# Altium footprint library Misc.PcbLib: 150 footprints (part 9 of 10)
Each footprint in its own frame and in the unit in brackets; x right, y up, seen from the top. Pads: shape width x height; smd on the part's side, far side on the other; paste and mask are expansions set on the pad; w line width, h text height; cw(c..) or ccw(c..) is an arc to the next point about the centre after c.
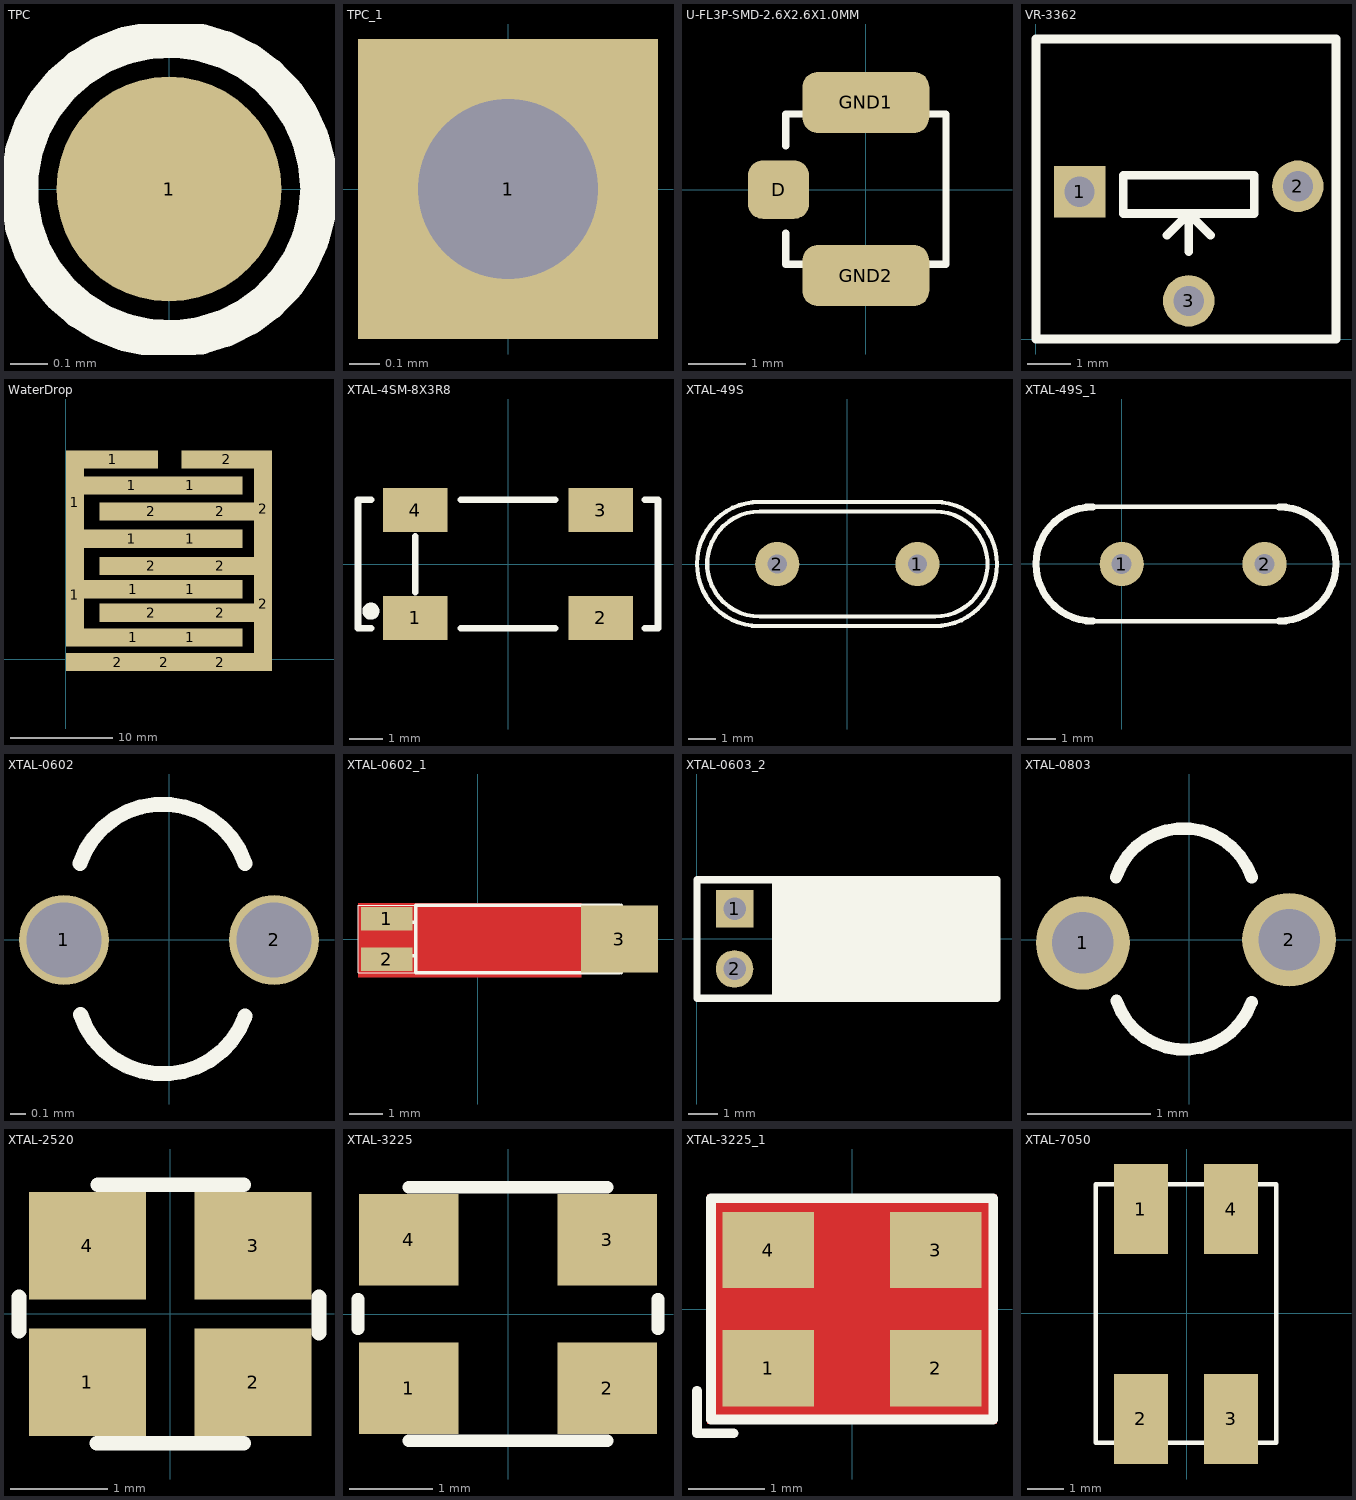
[diagram p8: the footprints below, top view; thin cyan lines are the x and y axes]

## TPC [mm]
pads (1):
  round 0.6 smd: 1(0,0)
Top Overlay:
  circle w0.1: c0,0 r0.4

## TPC_1 [mm] "2.00MM Hole"
pads (1):
  rect 1x1 hole 0.6: 1(0,0)

## U-FL3P-SMD-2.6X2.6X1.0MM [mil] "U-FL3P-SMD-2.6X2.6X1.0MM"
pads (3):
  rrect50% 42x40 smd: D(-60,0)
  rrect50% 87x42 smd: GND1(0,60) GND2(0,-59.06)
Top Overlay:
  lines w5: -55,-30 -55,-51.18 -35.43,-51.18 ; -55,30 -55,52 -35.43,52 ; -35.43,-51.18 -35.43,-59.06 36,-59.06 36,-51.18 ; -35.43,-51.18 36,-51.18 ; -35.43,52 -35.43,60 36,60 36,52 ; -35.43,52 36,52 ; 36,-51.18 55,-51.18 55,52 36,52
Mechanical 2:
Mechanical 4:
Mechanical 23:
  text ">name" at 5,-20 h15.5

## VR-3362 [mm] "Thru-Hole; 3 Leads"
height 3.9
pads (3):
  rect 1.2x1.2 hole 0.7: 1(1.016,3.429)
  round 1.2 hole 0.7: 2(6.096,3.556) 3(3.556,0.889)
Top Overlay:
  lines w0.2: 0,0 0,6.985 6.985,6.985 6.985,0 0,0
  lines w0.203: 3.048,2.413 3.556,2.921 3.556,2.032 ; 3.683,2.794 4.064,2.413 ; 2.032,2.921 2.032,3.81 5.08,3.81 5.08,2.921 2.032,2.921

## WaterDrop [mil]
pads (23):
  rect 70x400 smd: 1(35,250) 1(35,605) 2(760,215) 2(760,580)
  rect 350x70 smd: 1(180,770) 2(620,770)
  rect 400x70 smd: 1(255,465) 1(255,670) 1(260,85) 1(260,270) 1(480,85) 1(480,270) 1(480,465) 1(480,670) 2(200,-10) 2(330,180) 2(330,360) 2(330,570) 2(380,-10) 2(595,-10) 2(595,180) 2(595,360) 2(595,570)

## XTAL-4SM-8X3R8 [mm]
height 2
pads (4):
  rect 1.9x1.3 smd: 1(-2.75,-1.6) 2(2.75,-1.6) 3(2.75,1.6) 4(-2.75,1.6)
Top Overlay:
  circle w0.254: c-4.064,-1.397 r0.127
  lines w0.203: -4.064,-1.905 -4.445,-1.905 -4.445,1.905 -4.064,1.905 ; -2.75,-0.838 -2.75,0.813 ; -1.397,-1.905 1.397,-1.905 ; -1.397,1.905 1.397,1.905 ; 4.064,-1.905 4.445,-1.905 4.445,-1.651 4.445,1.651 4.445,1.905 4.064,1.905

## XTAL-49S [mm] "Hole 1.6mm"
pads (2):
  round 1.6 hole 0.7: 1(2.54,0) 2(-2.54,0)
Top Overlay:
  lines w0.152: -3.2,-2.25 cw(c-3.2,0) -3.177,2.25 3.175,2.25 cw(c3.175,0) 3.151,-2.25 -3.2,-2.25 ; -3.175,-1.905 cw(c-3.175,0) -3.175,1.905 3.175,1.905 cw(c3.175,0) 3.175,-1.905 -3.175,-1.905

## XTAL-49S_1 [mil]
height 78.74
pads (2):
  round 62 hole 28: 1(-0.36,-0.2) 2(199.64,-0.2)
Top Overlay:
  lines w6.3: -40.36,-80.2 219.64,-80.2 ; -40.36,79.8 219.64,79.8
  lines w10: -40.36,-80.2 cw(c-40.36,-0.2) -40.36,79.8 ; 219.64,-80.2 ccw(c219.64,-0.2) 219.64,79.8

## XTAL-0602 [mm]
height 5.08
pads (2):
  round 0.6 hole 0.5: 1(-0.7,0) 2(0.7,0)
Top Overlay:
  lines w0.1: -0.595,0.508 cw(c-0.043,0.324) 0.508,0.508 ; -0.59,-0.496 ccw(c-0.039,-0.312) 0.508,-0.508

## XTAL-0602_1 [mm] "6R90X1R40X1R30"
pads (3):
  rect 1.524x0.7 smd: 1(-2.7,0.6) 2(-2.7,-0.6)
  rect 2.286x2 smd: 3(4.2,0)
Top Layer:
  pour cut-out: -3.558,1.054 3.059,1.054 3.059,-1.132 -3.558,-1.132
Top Overlay:
  lines w0.025: -3.55,-1 -3.55,1 4.3,1 4.3,-1 -3.55,-1
  lines w0.1: -2.45,-0.5 -1.85,-0.5 ; -2.45,0.5 -1.85,0.5 ; 4.2,-1 -1.85,-1 -1.85,1 4.2,1 ; 4.25,-1 4.25,1

## XTAL-0603_2 [mil]
pads (2):
  rect 50x50 hole 30: 1(50,40)
  round 50 hole 30: 2(50,-40)
Top Overlay:
  lines w10: 105,-78.74 105,78.74 ; 115,-78.74 115,78.74 ; 123.7,-78.74 123.7,78.74 ; 130,-78.74 130,78.74 ; 140,-78.74 140,78.74 ; 148.7,-78.74 148.7,78.74 ; 155,-78.74 155,78.74 ; 165,-78.74 165,78.74 ; 173.7,-78.74 173.7,78.74 ; 180,-78.74 180,78.74 ; 190,-78.74 190,78.74 ; 198.7,-78.74 198.7,78.74 ; 200,-78.74 200,78.74 ; 210,-78.74 210,78.74 ; 218.7,-78.74 218.7,78.74 ; 225,-78.74 225,78.74 ; 235,-78.74 235,78.74 ; 243.7,-78.74 243.7,78.74 ; 250,-78.74 250,78.74 ; 260,-78.74 260,78.74 ; 268.7,-78.74 268.7,78.74 ; 275,-78.74 275,78.74 ; 285,-78.74 285,78.74 ; 293.7,-78.74 293.7,78.74 ; 300,-78.74 300,78.74 ; 310,-78.74 310,78.74 ; 318.7,-78.74 318.7,78.74 ; 325,-78.74 325,78.74 ; 335,-78.74 335,78.74 ; 343.7,-78.74 343.7,78.74 ; 350,-78.74 350,78.74 ; 360,-78.74 360,78.74 ; 368.7,-78.74 368.7,78.74 ; 375,-78.74 375,78.74 ; 385,-78.74 385,78.74 ; 393.7,-78.74 393.7,78.74 ; 0,-78.74 400,-78.74 400,78.74 0,78.74 0,-78.74

## XTAL-0803 [mil]
pads (2):
  round 30 hole 19.68: 1(-34,-1) 2(32,0)
Top Overlay:
  lines w3.94: -23.41,20 cw(c-1.7,12.77) 20,20 ; -23.25,-19.53 ccw(c-1.54,-12.29) 20,-20

## XTAL-2520 [mm] "TSX-2520"
height 1
pads (4):
  rect 1.2x1.1 smd: 1(-0.85,-0.7) 2(0.85,-0.7) 3(0.85,0.7) 4(-0.85,0.7)
Top Overlay:
  lines w0.152: -1.55,-0.175 -1.55,0.175 ; -0.75,-1.325 0.75,-1.325 ; -0.74,1.325 0.75,1.325 ; 1.525,-0.195 1.525,0.175
3D body: height 0.56, standoff 0, extent -1.25,-1 1.27,1
3D body: height 0.56, standoff 0.15, extent -1.05,-0.8 1.05,0.8

## XTAL-3225 [mm] "Mercury X32 series"
height 1
pads (4):
  rect 1.2x1.1 smd: 1(-1.194,-0.89) 2(1.194,-0.89) 3(1.194,0.891) 4(-1.194,0.891)
Top Overlay:
  lines w0.152: -1.803,-0.178 -1.803,0.178 ; -1.194,-1.524 1.194,-1.524 ; -1.194,1.524 1.194,1.524 ; 1.803,-0.178 1.803,0.178
3D body: height 0.81, standoff 0, extent -1.6,-1.25 1.614,1.25
3D body: height 0.81, standoff 0.15, extent -1.4,-1.05 1.4,1.05

## XTAL-3225_1 [mm]
pads (4):
  rect 1.2x1 smd: 1(-1.1,-0.775) 2(1.1,-0.775) 3(1.1,0.775) 4(-1.1,0.775)
Top Layer:
  pour cut-out: -1.9,1.5 1.9,1.5 1.9,-1.5 -1.9,-1.5
Top Overlay:
  lines w0.127: -2.032,-1.067 -2.032,-1.626 -1.549,-1.626 ; -1.848,-1.447 -1.848,1.453 1.852,1.453 1.852,-1.447 -1.848,-1.447

## XTAL-7050 [mm]
pads (4):
  rect 1.5x2.5 smd: 1(-1.27,2.894) 2(-1.27,-2.922) 3(1.23,-2.922) 4(1.23,2.894)
Top Overlay:
  lines w0.12: -2.52,-3.581 2.48,-3.581 2.48,3.581 -2.52,3.581 -2.52,-3.581
3D body: height 1, standoff 0, extent -2.5,-3.449 2.5,3.551